# Altium footprint library Connector.PcbLib: 240 footprints (part 13 of 15)
Each footprint in its own frame and in the unit in brackets; x right, y up, seen from the top. Pads: shape width x height; smd on the part's side, far side on the other; paste and mask are expansions set on the pad; w line width, h text height; cw(c..) or ccw(c..) is an arc to the next point about the centre after c.
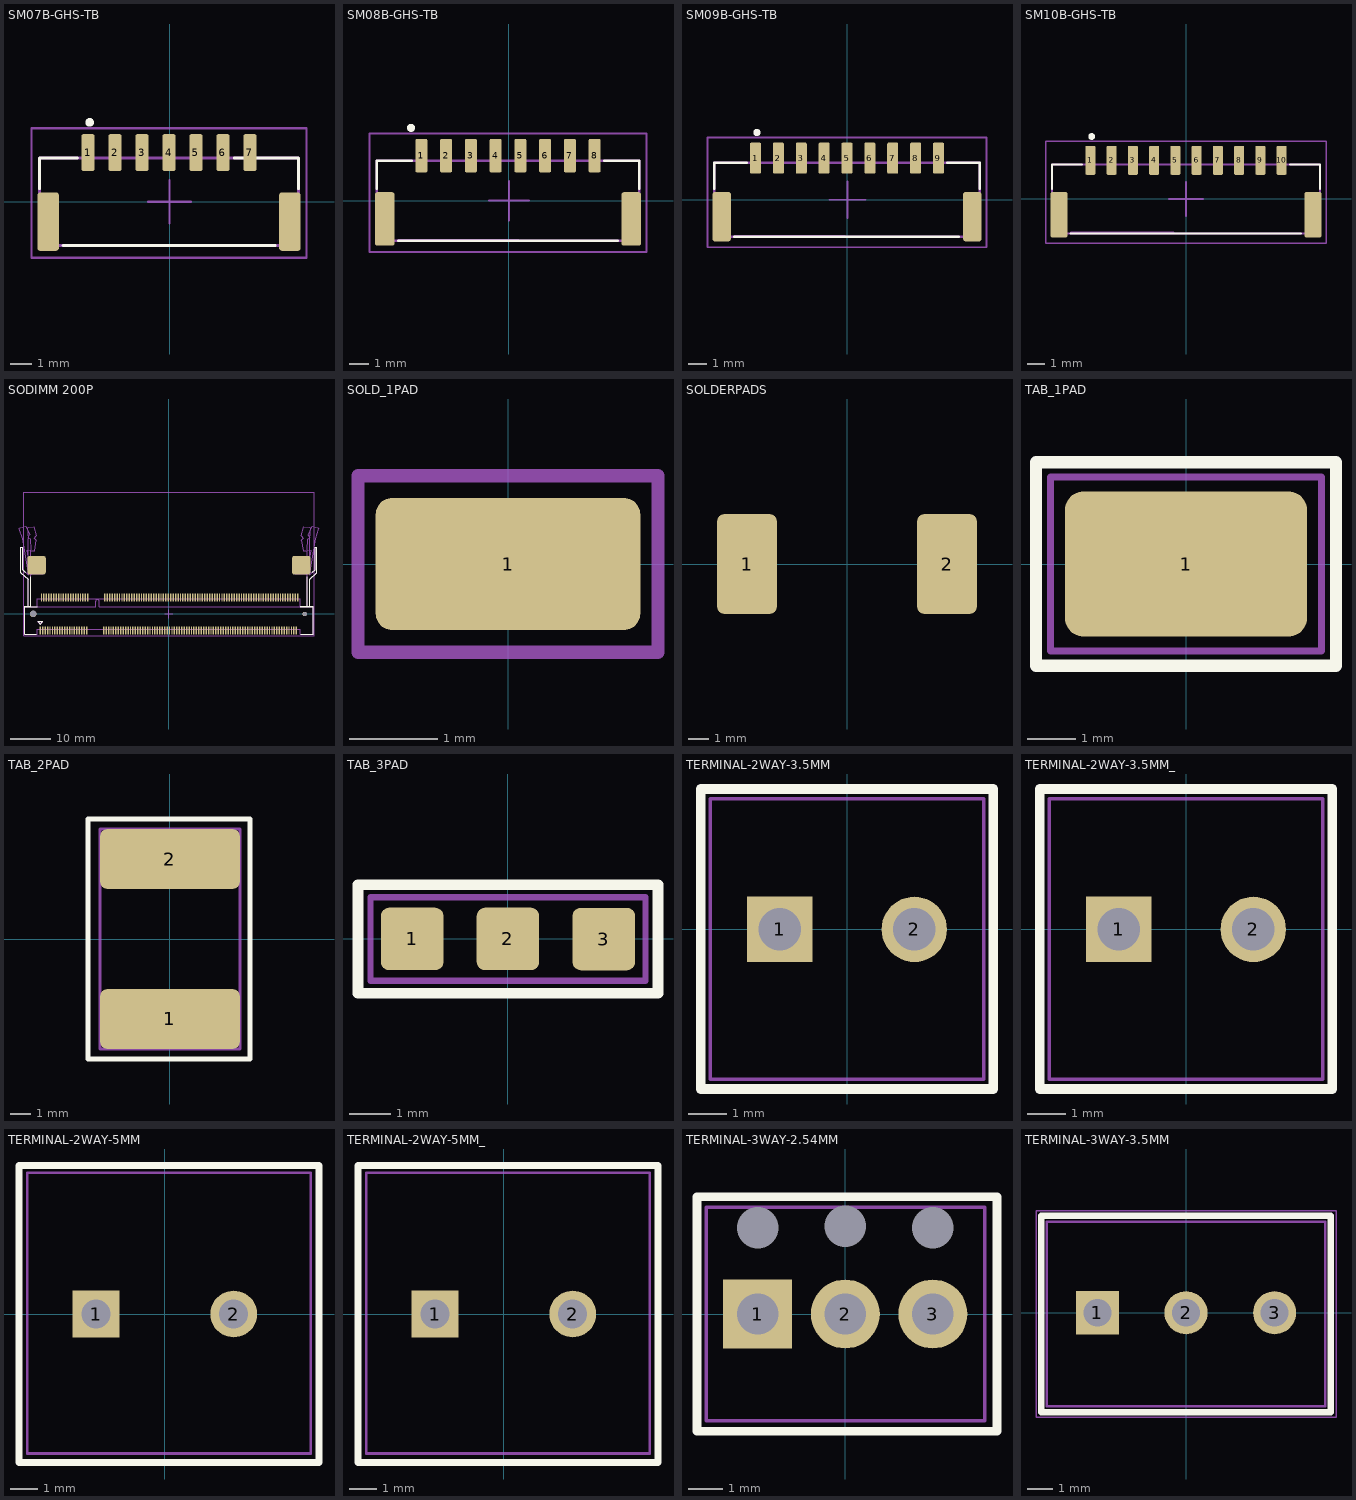
[diagram p12: the footprints below, top view; thin cyan lines are the x and y axes]

## SM07B-GHS-TB [mm]
pads (9):
  rrect25% 0.6x1.7 smd: 1(-3.775,2.275) 2(-2.525,2.275) 3(-1.275,2.275) 4(-0.025,2.275) 5(1.225,2.275) 6(2.475,2.275) 7(3.725,2.275)
  rrect25% 1x2.7 smd: ""(-5.625,-0.925) ""(5.575,-0.925)
Top Overlay:
  circle w0.2: c-3.7,3.675 r0.1
  lines w0.127: -6.025,0.605 -6.025,2.025 -4.26,2.025 ; -4.94,-2.025 4.9,-2.025 ; 3,2.025 5.975,2.025 5.975,0.595
Mechanical 7:
  circle w0.2: c-3.7,2.675 r0.1
  lines w0.127: -6.025,-2.025 5.975,-2.025 5.975,2.025 -6.025,2.025 -6.025,-2.025
Mechanical 9:
  text ".Designator" at -4.9,4.7 h3.5
Mechanical 10:
  text ".Comment" at -2.9,-4.2 h2
Mechanical 15:
  lines w0.1: -1,0 1,0 ; 0,-1 0,1 ; -6.4,-2.6 6.35,-2.6 6.35,3.4 -6.4,3.4 -6.4,-2.6
3D body "SM07B-GHS-TB.stp": height 4.25, standoff -0.05, extent -6,-2.025 6,2.825

## SM08B-GHS-TB [mm]
pads (10):
  rrect25% 0.6x1.7 smd: 1(-4.425,2.275) 2(-3.175,2.275) 3(-1.925,2.275) 4(-0.675,2.275) 5(0.575,2.275) 6(1.825,2.275) 7(3.075,2.275) 8(4.325,2.275)
  rrect25% 1x2.7 smd: ""(-6.275,-0.925) ""(6.175,-0.925)
Top Overlay:
  circle w0.2: c-4.95,3.675 r0.1
  lines w0.127: -6.675,0.605 -6.675,2.025 -4.91,2.025 ; -5.59,-2.025 5.5,-2.025 ; 4.81,2.025 6.575,2.025 6.575,0.595
Mechanical 7:
  circle w0.2: c-4.35,2.675 r0.1
  lines w0.127: -6.675,-2.025 -6.675,2.025 6.575,2.025 6.575,-2.025 -6.675,-2.025
  lines w0.15: -5.55,-2 0.45,-2
Mechanical 9:
  text ".Designator" at -4.9,4.7 h3.5
Mechanical 10:
  text ".Comment" at -2.9,-4.2 h2
Mechanical 15:
  lines w0.1: -1,0 1,0 ; 0,-1 0,1 ; -7.05,-2.6 -7.05,3.4 6.95,3.4 6.95,-2.6 -7.05,-2.6
3D body "SM08B-GHS-TB.stp": height 4.25, standoff -0.05, extent -6.675,-2.025 6.575,2.825

## SM09B-GHS-TB [mm]
pads (11):
  rrect25% 0.6x1.7 smd: 1(-5.025,2.275) 2(-3.775,2.275) 3(-2.525,2.275) 4(-1.275,2.275) 5(-0.025,2.275) 6(1.225,2.275) 7(2.475,2.275) 8(3.725,2.275) 9(4.975,2.275)
  rrect25% 1x2.7 smd: ""(-6.875,-0.925) ""(6.825,-0.925)
Top Overlay:
  circle w0.2: c-4.95,3.675 r0.1
  lines w0.127: -7.275,0.605 -7.275,2.025 -5.51,2.025 ; -6.19,-2.025 6.1,-2.025 ; 5.46,2.025 7.225,2.025 7.225,0.595
Mechanical 7:
  circle w0.2: c-4.95,2.675 r0.1
  lines w0.127: -7.275,-2.025 7.225,-2.025 7.225,2.025 -7.275,2.025 -7.275,-2.025
  lines w0.15: -6.15,-2 -0.15,-2
Mechanical 9:
  text ".Designator" at -4.9,4.7 h3.5
Mechanical 10:
  text ".Comment" at -2.9,-4.2 h2
Mechanical 15:
  lines w0.1: -1,0 1,0 ; 0,-1 0,1 ; -7.65,-2.6 7.6,-2.6 7.6,3.4 -7.65,3.4 -7.65,-2.6
3D body "SM09B-GHS-TB.stp": height 4.25, standoff -0.05, extent -7.25,-2.025 7.25,2.825

## SM10B-GHS-TB [mm]
pads (12):
  rrect25% 0.6x1.7 smd: 1(-5.625,2.275) 2(-4.375,2.275) 3(-3.125,2.275) 4(-1.875,2.275) 5(-0.625,2.275) 6(0.625,2.275) 7(1.875,2.275) 8(3.125,2.275) 9(4.375,2.275) 10(5.625,2.275)
  rrect25% 1x2.7 smd: ""(-7.475,-0.925) ""(7.475,-0.925)
Top Overlay:
  circle w0.2: c-5.55,3.675 r0.1
  lines w0.127: -7.875,0.605 -7.875,2.025 -6.11,2.025 ; -6.79,-2.025 6.75,-2.025 ; 6.11,2.025 7.875,2.025 7.875,0.595
Mechanical 7:
  circle w0.2: c-5.55,2.675 r0.1
  lines w0.127: -7.875,-2.025 7.875,-2.025 7.875,2.025 -7.875,2.025 -7.875,-2.025
  lines w0.15: -6.75,-2 -0.75,-2
Mechanical 9:
  text ".Designator" at -4.9,4.7 h3.5
Mechanical 10:
  text ".Comment" at -2.9,-4.2 h2
Mechanical 15:
  lines w0.1: -1,0 1,0 ; 0,-1 0,1 ; -8.25,-2.6 8.25,-2.6 8.25,3.4 -8.25,3.4 -8.25,-2.6
3D body "SM10B-GHS-TB.stp": height 4.25, standoff -0.05, extent -7.875,-2.025 7.875,2.825

## SODIMM 200P [mm] "Thin QFP, 32-Leads, Body 7x7mm, Pitch 0.8mm, IPC Medium Density"
height 1.2
pads (204):
  rrect25% 0.35x2 smd: 1(-31.65,-4.1) 2(-31.35,4.1) 3(-31.05,-4.1) 4(-30.75,4.1) 5(-30.45,-4.1) 6(-30.15,4.1) 7(-29.85,-4.1) 8(-29.55,4.1) 9(-29.25,-4.1) 10(-28.95,4.1) 11(-28.65,-4.1) 12(-28.35,4.1) 13(-28.05,-4.1) 14(-27.75,4.1) 15(-27.5,-4.1) 16(-27.15,4.1) 17(-26.85,-4.1) 18(-26.55,4.1) 19(-26.25,-4.1) 20(-25.95,4.1) 21(-25.65,-4.1) 22(-25.35,4.1) 23(-25.05,-4.1) 24(-24.75,4.1) 25(-24.45,-4.1) 26(-24.15,4.1) 27(-23.85,-4.1) 28(-23.55,4.1) 29(-23.25,-4.1) 30(-22.95,4.1) 31(-22.65,-4.1) 32(-22.35,4.1) 33(-22.05,-4.1) 34(-21.75,4.1) 35(-21.45,-4.1) 36(-21.15,4.1) 37(-20.85,-4.1) 38(-20.55,4.1) 39(-20.25,-4.1) 40(-19.95,4.1) 41(-16.05,-4.1) 42(-15.75,4.1) 43(-15.45,-4.1) 44(-15.15,4.1) 45(-14.85,-4.1) 46(-14.55,4.1) 47(-14.25,-4.1) 48(-13.95,4.1) 49(-13.65,-4.1) 50(-13.35,4.1) 51(-13.05,-4.1) 52(-12.75,4.1) 53(-12.5,-4.1) 54(-12.15,4.1) 55(-11.85,-4.1) 56(-11.55,4.1) 57(-11.25,-4.1) 58(-10.95,4.1) 59(-10.65,-4.1) 60(-10.35,4.1) 61(-10.05,-4.1) 62(-9.75,4.1) 63(-9.45,-4.1) 64(-9.15,4.1) 65(-8.85,-4.1) 66(-8.55,4.1) 67(-8.25,-4.1) 68(-7.95,4.1) 69(-7.65,-4.1) 70(-7.35,4.1) 71(-7.05,-4.1) 72(-6.75,4.1) 73(-6.45,-4.1) 74(-6.15,4.1) 75(-5.85,-4.1) 76(-5.55,4.1) 77(-5.25,-4.1) 78(-4.95,4.1) 79(-4.65,-4.1) 80(-4.35,4.1) 81(-4.05,-4.1) 82(-3.75,4.1) 83(-3.45,-4.1) 84(-3.15,4.1) 85(-2.85,-4.1) 86(-2.55,4.1) 87(-2.25,-4.1) 88(-1.95,4.1) 89(-1.65,-4.1) 90(-1.35,4.1) 91(-1.05,-4.1) 92(-0.75,4.1) 93(-0.45,-4.1) 94(-0.15,4.1) 95(0.15,-4.1) 96(0.45,4.1) 97(0.75,-4.1) 98(1.05,4.1) 99(1.35,-4.1) 100(1.65,4.1) 101(1.95,-4.1) 102(2.25,4.1) 103(2.55,-4.1) 104(2.85,4.1) 105(3.15,-4.1) 106(3.45,4.1) 107(3.75,-4.1) 108(4.05,4.1) 109(4.35,-4.1) 110(4.65,4.1) 111(4.95,-4.1) 112(5.25,4.1) 113(5.55,-4.1) 114(5.85,4.1) 115(6.15,-4.1) 116(6.45,4.1) 117(6.75,-4.1) 118(7.05,4.1) 119(7.35,-4.1) 120(7.65,4.1) 121(7.95,-4.1) 122(8.25,4.1) 123(8.55,-4.1) 124(8.85,4.1) 125(9.15,-4.1) 126(9.45,4.1) 127(9.75,-4.1) 128(10.05,4.1) 129(10.35,-4.1) 130(10.65,4.1) 131(10.95,-4.1) 132(11.25,4.1) 133(11.55,-4.1) 134(11.85,4.1) 135(12.15,-4.1) 136(12.45,4.1) 137(12.75,-4.1) 138(13.05,4.1) 139(13.35,-4.1) 140(13.65,4.1) 141(13.95,-4.1) 142(14.25,4.1) 143(14.55,-4.1) 144(14.85,4.1) 145(15.15,-4.1) 146(15.45,4.1) 147(15.75,-4.1) 148(16.05,4.1) 149(16.35,-4.1) 150(16.65,4.1) 151(16.95,-4.1) 152(17.25,4.1) 153(17.55,-4.1) 154(17.85,4.1) 155(18.15,-4.1) 156(18.45,4.1) 157(18.75,-4.1) 158(19.05,4.1) 159(19.35,-4.1) 160(19.65,4.1) 161(19.95,-4.1) 162(20.25,4.1) 163(20.55,-4.1) 164(20.85,4.1) 165(21.15,-4.1) 166(21.45,4.1) 167(21.75,-4.1) 168(22.05,4.1) 169(22.35,-4.1) 170(22.65,4.1) 171(22.95,-4.1) 172(23.25,4.1) 173(23.55,-4.1) 174(23.85,4.1) 175(24.15,-4.1) 176(24.45,4.1) 177(24.75,-4.1) 178(25.05,4.1) 179(25.35,-4.1) 180(25.65,4.1) 181(25.95,-4.1) 182(26.25,4.1) 183(26.55,-4.1) 184(26.85,4.1) 185(27.15,-4.1) 186(27.45,4.1) 187(27.75,-4.1) 188(28.05,4.1) 189(28.35,-4.1) 190(28.65,4.1) 191(28.95,-4.1) 192(29.25,4.1) 193(29.55,-4.1) 194(29.85,4.1) 195(30.15,-4.1) 196(30.45,4.1) 197(30.75,-4.1) 198(31.05,4.1) 199(31.35,-4.1) 200(31.65,4.1)
  round 1.6 hole 1.6 unplated: ""(-33.4,0)
  rrect25% 4.5x4.6 smd: ""(-32.55,12) ""(32.55,12)
  round 1.1 hole 1.1 unplated: ""(33.4,0)
Top Overlay:
  lines w0.2: -35.301,10.307 -36.001,10.943 -36.001,16.457 -36.401,16.457 -36.401,10.207 -34.601,8.607 -34.601,1.847 ; -34.001,9.107 -34.001,1.847 -34.601,1.847 ; -33.926,-4.993 -35.501,-4.993 -35.501,1.847 -34.601,1.847 ; -32.678,-4.984 -32.678,-4.978 -35.486,-4.978 -35.486,1.824 -32.368,1.824 ; 32.349,1.847 33.999,1.847 ; 32.358,1.84 35.511,1.84 35.511,-4.986 32.445,-4.986 32.445,-4.978 ; 33.401,0.061 33.401,0.062 ; 33.924,-4.993 35.499,-4.993 35.499,1.847 34.599,1.847 ; 33.999,9.133 33.999,1.847 ; 35.229,10.233 35.999,10.943 35.999,16.457 36.399,16.457 36.399,10.207 34.599,8.607 34.599,1.847 ; 35.459,-2.847 35.53,-2.919 ; 33.999,1.847 34.599,1.847 ; -32.301,-1.843 -31.651,-2.493 -31.001,-1.843 -32.301,-1.843
Mechanical 9:
  text ".Designator" at -8.05,33.5 h3.5
Mechanical 10:
  text ".Comment" at -5.9,30.9 h2
Mechanical 11:
  drawing of 164 lines, arcs and shapes, not listed
Mechanical 15:
  lines w0.1: -0.999,0 1.001,0 ; 0.001,-1 0.001,1 ; -35.7,-5.4 -35.7,30 35.8,30 35.8,-5.4 -35.7,-5.4
3D body "Сборка245.STEP": height 5.56, standoff -0.62, extent -35.75,-5 35.75,30

## SOLD_1PAD [mm]
pads (1):
  rrect25% 3x1.5 smd: 1(0,0)
Mechanical 7:
  lines w0.15: -1.7,-1 1.7,-1 1.7,1 -1.7,1 -1.7,-1

## SOLDERPADS [mm]
pads (2):
  rrect25% 3x5 smd: 1(-5,0) 2(5,0)
Mechanical 9:
  text ".Designator" at -6.05,6.6 h3.5
Mechanical 10:
  text ".Comment" at -3.85,4.6 h2

## TAB_1PAD [mm]
pads (1):
  rrect25% 5x3 smd: 1(0,0)
Top Overlay:
  lines w0.254: -3.1,-2.1 -3.1,2.1 3.1,2.1 3.1,-2.1 -3.1,-2.1
Mechanical 7:
  lines w0.15: -2.8,-1.8 -2.8,1.8 2.8,1.8 2.8,-1.8 -2.8,-1.8

## TAB_2PAD [mm]
pads (2):
  rrect25% 7x3 smd: 1(0,-4) 2(0,4)
Top Overlay:
  lines w0.254: -4.1,-6 -4.1,6 4,6 4,-6 -4.1,-6
Mechanical 7:
  lines w0.15: -3.5,-5.5 -3.5,5.5 3.5,5.5 3.5,-5.5 -3.5,-5.5

## TAB_3PAD [mm]
pads (3):
  rrect25% 1.5x1.5 smd: 1(-2.3,0) 2(0,0) 3(2.3,0)
Top Overlay:
  lines w0.254: -3.6,-1.3 -3.6,1.3 3.6,1.3 3.6,-1.3 -3.6,-1.3
Mechanical 7:
  lines w0.15: -3.3,-1 -3.3,1 3.3,1 3.3,-1 -3.3,-1

## TERMINAL-2WAY-3.5MM [mm]
pads (2):
  rect 1.7x1.7 hole 1.1: 1(-1.75,0)
  round 1.7 hole 1.1: 2(1.75,0)
Top Overlay:
  lines w0.254: -3.8,-4.15 3.8,-4.15 3.8,3.65 -3.8,3.65 -3.8,-4.15
Mechanical 7:
  lines w0.1: -3.556,-3.895 -3.556,3.395 3.556,3.395 3.556,-3.895 -3.556,-3.895
3D body "User Library-393570002.step": height 8.51, standoff -3.5, extent -3.556,-3.895 3.556,3.395

## TERMINAL-2WAY-3.5MM_ [mm]
pads (2):
  rect 1.7x1.7 hole 1.1: 1(-1.75,0)
  round 1.7 hole 1.1: 2(1.75,0)
Top Overlay:
  lines w0.254: -3.8,-4.15 -3.8,3.65 3.8,3.65 3.8,-4.15 -3.8,-4.15
Mechanical 7:
  lines w0.1: -3.556,-3.895 3.556,-3.895 3.556,3.395 -3.556,3.395 -3.556,-3.895
3D body "User Library-393570002.step": height 8.51, standoff -3.5, extent -3.556,-3.895 3.556,3.395

## TERMINAL-2WAY-5MM [mm]
pads (2):
  rect 1.7x1.7 hole 1.05: 1(-2.5,0)
  round 1.7 hole 1.05: 2(2.5,0)
Top Overlay:
  lines w0.254: -5.3,-5.4 -5.3,5.4 5.6,5.4 5.6,-5.4 -5.3,-5.4
Mechanical 7:
  lines w0.1: -5,-5.069 -5,5.131 5.3,5.131 5.3,-5.069 -5,-5.069
3D body "User Library-DG128-5_0-02P-14.step": height 14.3, standoff -3.5, extent -5,-5.069 5.3,5.131

## TERMINAL-2WAY-5MM_ [mm]
pads (2):
  rect 1.7x1.7 hole 1.05: 1(-2.5,0)
  round 1.7 hole 1.05: 2(2.5,0)
Top Overlay:
  lines w0.254: -5.3,-5.4 -5.3,5.4 5.6,5.4 5.6,-5.4 -5.3,-5.4
Mechanical 7:
  lines w0.1: -5,-5.069 -5,5.131 5.3,5.131 5.3,-5.069 -5,-5.069
3D body "User Library-DG128-5_0-02P-14.step": height 14.3, standoff -3.5, extent -5,-5.1 5.3,5.1

## TERMINAL-3WAY-2.54MM [mm]
pads (6):
  rect 2x2 hole 1.2: 1(-2.54,0)
  round 2 hole 1.2: 2(0,0) 3(2.54,0)
  round 0 hole 1.2 unplated: ""(-2.54,2.5) ""(0,2.54) ""(2.54,2.5)
Top Overlay:
  lines w0.254: -4.3,-3.4 -4.3,3.4 4.4,3.4 4.4,-3.4 -4.3,-3.4
Mechanical 7:
  lines w0.1: -4.03,-3.1 -4.03,3.1 4.05,3.1 4.05,-3.1 -4.03,-3.1
3D body "13997.stp": height 8.5, standoff -3.5, extent -4.05,-3.1 4.03,3.1

## TERMINAL-3WAY-3.5MM [mm]
height 8.4
pads (3):
  rect 1.7x1.7 hole 1.1: 1(-3.5,0)
  round 1.7 hole 1.1: 2(0,0) 3(3.5,0)
Top Overlay:
  lines w0.254: -5.725,-3.925 -5.725,3.825 5.725,3.825 5.725,-3.925 -5.725,-3.925
Mechanical 13:
  lines w0.1: -5.5,-3.7 5.5,-3.7 5.5,3.6 -5.5,3.6 -5.5,-3.7
Mechanical 15:
  lines w0.05: -0.562,0 0.563,0 ; 0,-0.563 0,0.562 ; -5.925,-4.125 -5.925,4.025 5.925,4.025 5.925,-4.125 -5.925,-4.125
3D body "37876.stp": height 8.5, standoff -3.5, extent -5.5,-3.7 5.5,3.6